# Altium footprint library SnapEDApcb.PcbLib: 2 footprints
Each footprint in its own frame and in the unit in brackets; x right, y up, seen from the top. Pads: shape width x height; smd on the part's side, far side on the other; paste and mask are expansions set on the pad; w line width, h text height; cw(c..) or ccw(c..) is an arc to the next point about the centre after c.
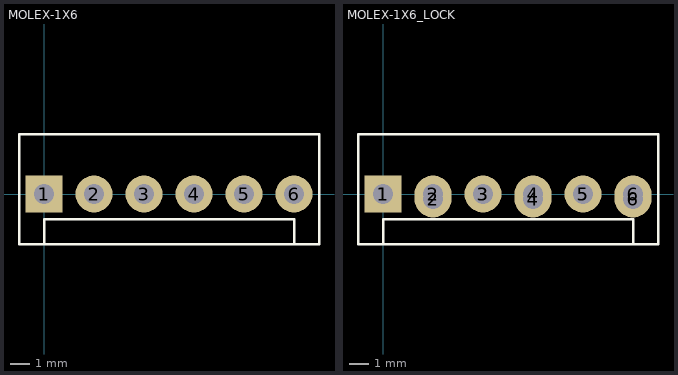
[diagram p0: the footprints below, top view; thin cyan lines are the x and y axes]

## MOLEX-1X6 [mil]
pads (6):
  rect 74x74 hole 40: 1(0,0)
  round 74 hole 40: 2(100,0) 3(200,0) 4(300,0) 5(400,0) 6(500,0)
Top Overlay:
  lines w5: 0,-100 500,-100 ; 0,-100 -50,-100 -50,120 550,120 550,-100 500,-100 ; 0,-100 0,-50 500,-50 500,-100

## MOLEX-1X6_LOCK [mil]
pads (12):
  round 74 hole 40: 1(0,0) 2(100,-10) 2(100,0) 3(200,0) 3(200,0) 4(300,-10) 4(300,0) 5(400,0) 5(400,0) 6(500,-10) 6(500,0)
  rect 74x74 hole 40: 1(0,0)
Top Overlay:
  lines w5: -50,-100 0,-100 ; -50,-100 -50,120 ; -50,-100 0,-100 ; -50,-100 -50,120 ; -50,120 550,120 ; -50,120 550,120 ; 0,-100 0,-50 ; 0,-100 500,-100 ; 0,-100 0,-50 ; 0,-100 500,-100 ; 0,-50 500,-50 ; 0,-50 500,-50 ; 500,-100 500,-50 ; 500,-100 550,-100 ; 500,-100 500,-50 ; 500,-100 550,-100 ; 550,-100 550,120 ; 550,-100 550,120
Mechanical 13:
  region: 511.5,-16.51 488.83,-16.51 488.83,6.5 511.5,6.5
  region: 411.5,-16.52 388.9,-16.52 388.9,6.5 411.5,6.5
  region: 311.5,-16.5 288.52,-16.5 288.52,6.5 311.5,6.5
  region: 211.5,-16.51 188.63,-16.51 188.63,6.5 211.5,6.5
  region: 111.5,-16.51 88.55,-16.51 88.55,6.5 111.5,6.5
  region: 11.5,-16.51 -11.51,-16.51 -11.51,6.5 11.5,6.5